# Altium integrated library Spring Compression Contact 2.5 mm.IntLib: 1 symbol
Pins are listed as number, name and electrical type; pins without a type are passive.

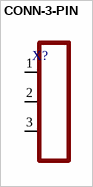
[diagram p0: symbol CONN-3-PIN]

## CONN-3-PIN
designator X?
footprint 4-SMD
pins: 1, 2, 3